# Altium footprint library InvertotPCBLib.PcbLib: 27 footprints (part 1 of 2)
Each footprint in its own frame and in the unit in brackets; x right, y up, seen from the top. Pads: shape width x height; smd on the part's side, far side on the other; paste and mask are expansions set on the pad; w line width, h text height; cw(c..) or ccw(c..) is an arc to the next point about the centre after c.
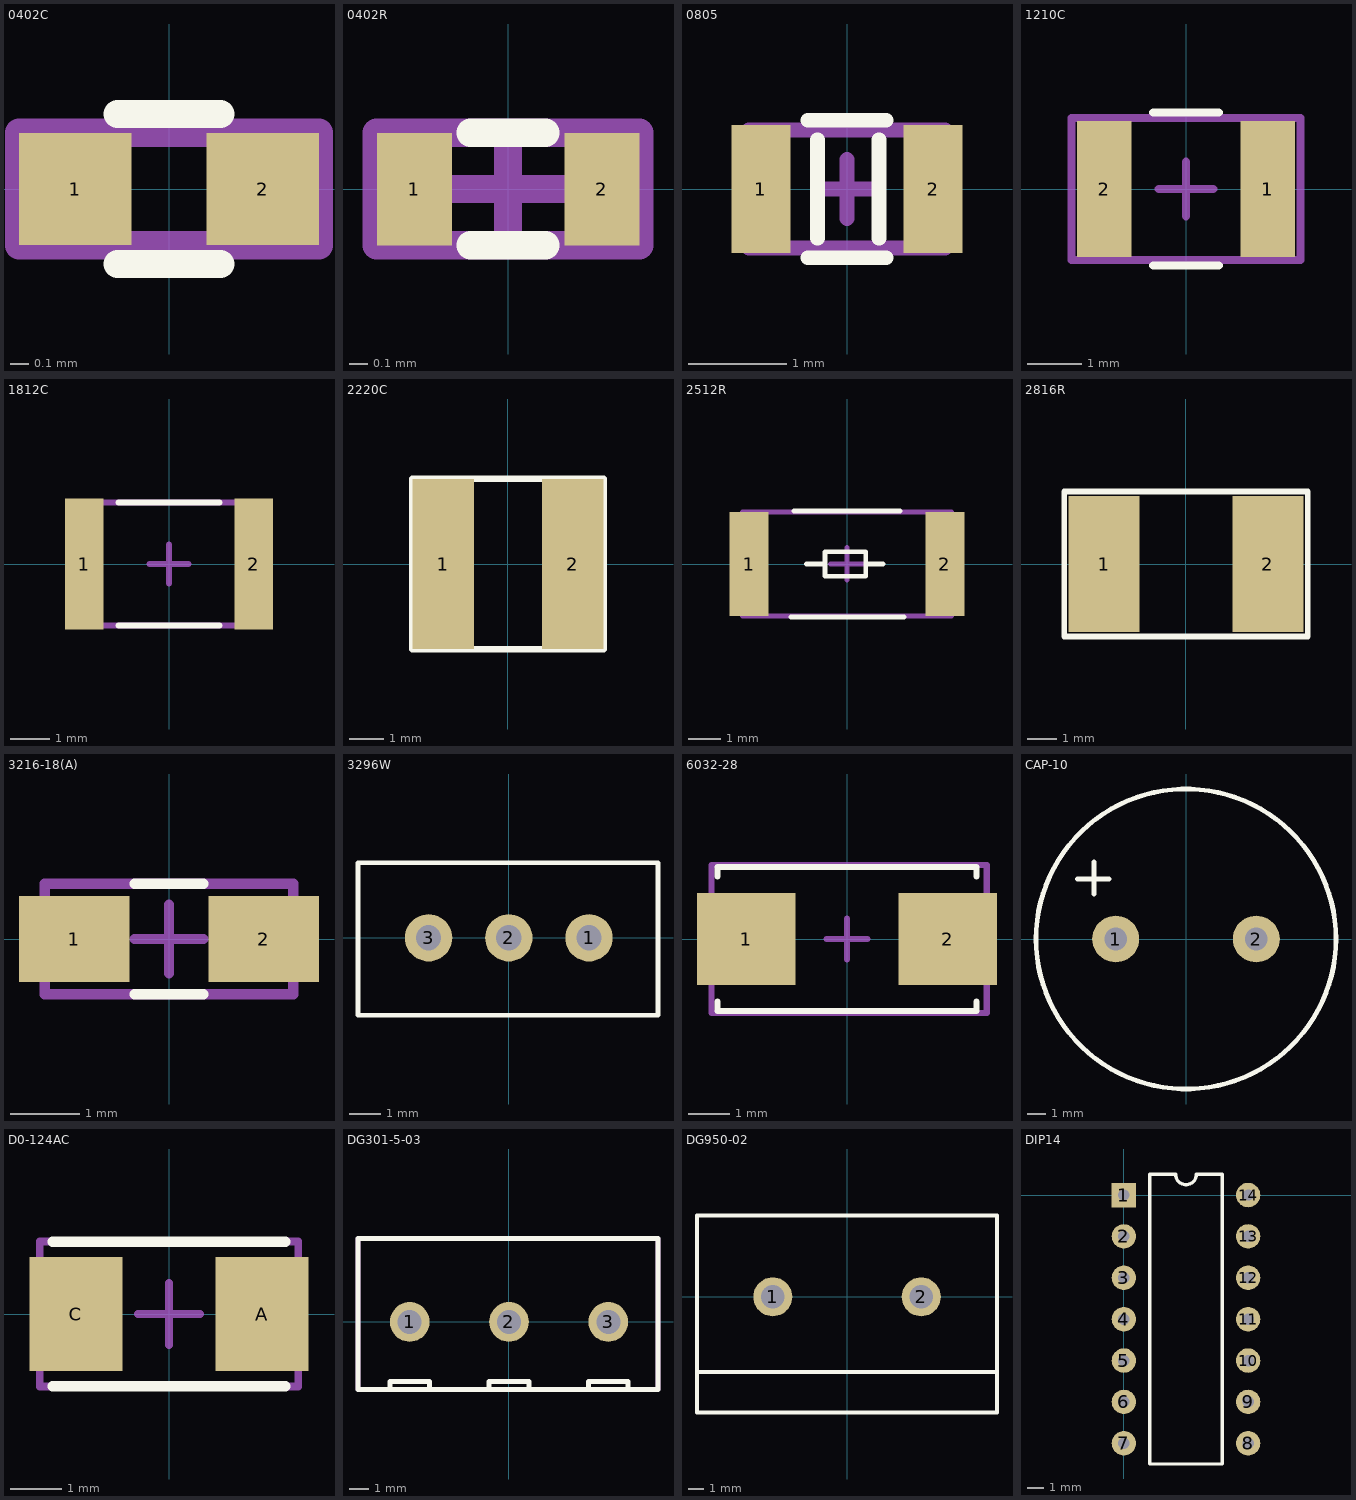
[diagram p0: the footprints below, top view; thin cyan lines are the x and y axes]

## 0402C [mm]
pads (2):
  rect 0.6x0.6 smd: 1(-0.5,0) 2(0.5,0)
Top Overlay:
  lines w0.15: -0.275,-0.4 0.275,-0.4 ; -0.275,0.4 0.275,0.4
Top Courtyard:
  lines w0.15: -0.8,-0.3 0.8,-0.3 0.8,0.3 -0.8,0.3 -0.8,-0.3
3D body "0402C.STEP": height 0.36, standoff 0, extent -0.5,-0.265 0.5,0.265

## 0402R [mm]
pads (2):
  rect 0.4x0.6 smd: 1(-0.5,0) 2(0.5,0)
Top Overlay:
  lines w0.15: -0.2,-0.3 0.2,-0.3 ; -0.2,0.3 0.2,0.3
Top Courtyard:
  lines w0.15: -0.3,0 0.3,0 ; 0,-0.3 0,0.3 ; -0.7,-0.3 -0.7,0.3 0.7,0.3 0.7,-0.3 -0.7,-0.3
3D body "0402R.STEP": height 0.34, standoff 0, extent -0.52,-0.3 0.52,0.3

## 0805 [mm]
pads (2):
  rect 0.6x1.3 smd: 1(-0.875,0) 2(0.875,0)
Top Overlay:
  lines w0.15: -0.4,-0.7 0.4,-0.7 ; -0.4,0.7 0.4,0.7 ; -0.3,-0.5 -0.3,0.5 ; 0.325,-0.5 0.325,0.5
Top Courtyard:
  lines w0.15: -0.3,0 0.3,0 ; 0,-0.3 0,0.3 ; -1,-0.6 -1,0.6 1,0.6 1,-0.6 -1,-0.6
3D body: height 0.8, standoff 0, extent 0.4,-0.6 1,0.6
3D body: height 0.8, standoff 0, extent -0.4,-0.6 0.4,0.6
3D body: height 0.8, standoff 0, extent -1,-0.6 -0.4,0.6

## 1210C [mm]
pads (2):
  rect 1x2.5 smd: 1(1.5,0) 2(-1.5,0)
Top Overlay:
  lines w0.15: -0.6,-1.4 0.6,-1.4 ; -0.6,1.4 0.6,1.4
Top Courtyard:
  lines w0.15: -0.5,0 0.5,0 ; 0,-0.5 0,0.5 ; -2.1,-1.3 2.1,-1.3 2.1,1.3 -2.1,1.3 -2.1,-1.3
3D body: height 1.6, standoff 0, extent 0.9,-1.3 2,1.3
3D body: height 1.6, standoff 0, extent -0.9,-1.3 0.9,1.3
3D body: height 1.6, standoff 0, extent -2,-1.3 -0.9,1.3

## 1812С [mm]
pads (2):
  rect 1x3.35 smd: 1(-2.175,0) 2(2.175,0)
Top Overlay:
  lines w0.15: -1.3,-1.575 1.3,-1.575 ; -1.3,1.575 1.3,1.575
Top Courtyard:
  lines w0.15: -0.5,0 0.5,0 ; 0,-0.5 0,0.5 ; -2.3,-1.575 2.3,-1.575 2.3,1.575 -2.3,1.575 -2.3,-1.575
3D body "C1812C.step": height 1, standoff 0, extent -2.25,-1.6 2.25,1.6

## 2220С [mm]
pads (2):
  rect 1.8x5 smd: 1(-1.9,0) 2(1.9,0)
Top Overlay:
  lines w0.2: -2.8,-2.5 -2.8,0 -2.8,2.5 2.8,2.5 2.8,-2.5 -2.8,-2.5

## 2512R [mm]
pads (2):
  rect 1.2x3.2 smd: 1(-3,0) 2(3,0)
Top Overlay:
  lines w0.15: -1.725,-1.625 1.75,-1.625 ; -1.625,1.625 1.625,1.625 ; -1.25,0 -0.675,0 ; 1.1,0 0.575,0 ; -0.675,0 -0.675,-0.375 0.575,-0.375 0.575,0 ; -0.675,0 -0.675,0.375 0.575,0.375 0.575,0
Top Courtyard:
  lines w0.15: -0.5,0 0.5,0 ; 0,-0.5 0,0.5 ; -3.2,-1.6 3.2,-1.6 3.2,1.6 -3.2,1.6 -3.2,-1.6
3D body: height 0.55, standoff 0, extent -3.2,-1.6 -2.5,1.6
3D body: height 0.55, standoff 0, extent 2.5,-1.6 3.2,1.6
3D body: height 0.55, standoff 0, extent -2.5,-1.6 2.5,1.6

## 2816R [mm]
pads (2):
  rect 2.45x4.7 smd: 1(-2.825,0) 2(2.825,0)
Top Overlay:
  lines w0.2: -4.2,-2.5 -4.2,0 -4.2,2.5 4.2,2.5 4.2,-2.5 -4.2,-2.5

## 3216-18(А) [mm]
pads (2):
  rect 1.6x1.25 smd: 1(-1.375,0) 2(1.375,0)
Top Overlay:
  lines w0.15: -0.5,-0.8 0.5,-0.8 ; -0.5,0.8 0.5,0.8
  text "." at -2.15,0.985 h0.1
Top Courtyard:
  lines w0.15: -0.5,0 0.5,0 ; 0,-0.5 0,0.5 ; -1.8,-0.8 -1.8,0.8 1.8,0.8 1.8,-0.8 -1.8,-0.8
3D body "3216-18(A).step": height 1.6, standoff 0, extent -1.82,-0.8 1.82,0.8

## 3296W [mm]
pads (3):
  round 1.5 hole 0.8: 1(2.54,0) 2(0,0) 3(-2.54,0)
Top Overlay:
  lines w0.15: -4.775,-2.45 -4.775,2.375 4.725,2.375 4.725,-2.45 -4.775,-2.45
3D body "3296W.STEP": height 11.52, standoff -3, extent -4.765,-2.43 4.765,2.4

## 6032-28 [mm]
pads (2):
  rect 2.4x2.25 smd: 1(-2.45,0) 2(2.45,0)
Top Overlay:
  lines w0.15: -3.15,-1.525 -3.15,-1.75 3.15,-1.75 3.15,-1.525 ; -3.15,1.525 -3.15,1.75 3.15,1.75 3.15,1.525
  text "." at -3.75,1.685 h0.1
Top Courtyard:
  lines w0.15: -0.5,0 0.5,0 ; 0,-0.5 0,0.5 ; -3.3,-1.8 3.4,-1.8 3.4,1.8 -3.3,1.8 -3.3,-1.8
3D body "CAPMP6134X28N.step": height 2.8, standoff 0, extent -3.37,-1.75 3.37,1.75

## CAP-10 [mm]
pads (2):
  round 2.5 hole 1.2: 1(-3.75,0) 2(3.75,0)
Top Overlay:
  circle w0.254: c0,0 r8
  lines w0.254: -5.8,3.2 -4.1,3.2 ; -4.9,2.4 -4.9,4.1

## D0-124AC [mm]
pads (2):
  rect 1.8x2.2 smd: A(1.8,0) C(-1.8,0)
Top Overlay:
  lines w0.2: -2.25,-1.4 2.25,-1.4 ; -2.25,1.4 2.25,1.4
  text "." at -2.805,1.58 h0.1
Top Courtyard:
  lines w0.15: -0.6,0 0.6,0 ; 0,-0.6 0,0.6 ; -2.5,-1.4 -2.5,1.4 2.5,1.4 2.5,-1.4 -2.5,-1.4
3D body "DIOM4227X24N.step": height 2.4, standoff 0, extent -2.47,-1.4 2.47,1.4

## DG301-5-03 [mm]
pads (3):
  round 2 hole 1.2: 1(-5,0) 2(0,0) 3(5,0)
Top Overlay:
  lines w0.254: -6,-3.4 -6,-3 -4,-3 -4,-3.4 ; -2.6,-3.4 7.5,-3.4 7.5,4.2 -2.6,4.2 ; 2.5,-3.4 -7.6,-3.4 -7.6,4.2 2.5,4.2 ; 4,-3.4 4,-3 6,-3 6,-3.4 ; -1,-3 -1,-3.4 -1,-3 ; -1,-3 1,-3 ; -1,-3 1,-3 ; 1,-3 1,-3.4 1,-3
Top Courtyard:
  lines w0.254: -2.6,-3.4 7.5,-3.4 7.5,4.2 -2.6,4.2 ; 2.5,-3.4 -7.6,-3.4 -7.6,4.2 2.5,4.2
3D body "User Library-DG301-5_0-3P12.STEP": height 10, standoff -4.16, extent -8.1,-3.4 7.5,4.2

## DG950-02 [mm]
pads (2):
  round 2.5 hole 1.5: 1(-4.75,0) 2(4.75,0)
Top Overlay:
  lines w0.254: -9.6,-4.8 9.6,-4.8 ; -9.6,-7.4 -9.6,5.2 9.6,5.2 9.6,-7.4 -9.6,-7.4
3D body "DG950-9.5-02P-14-00AH.STEP": height 21.5, standoff -5, extent -10.083,-7.351 9.517,5.149

## DIP14 [mm]
pads (14):
  rect 1.5x1.5 hole 0.7: 1(0,0)
  round 1.5 hole 0.7: 2(0,-2.54) 3(0,-5.08) 4(0,-7.62) 5(0,-10.16) 6(0,-12.7) 7(0,-15.24) 8(7.62,-15.24) 9(7.62,-12.7) 10(7.62,-10.16) 11(7.62,-7.62) 12(7.62,-5.08) 13(7.62,-2.54) 14(7.62,0)
Top Overlay:
  lines w0.2: 1.585,-16.51 1.585,1.27 3.175,1.27 ccw(c3.81,1.27) 4.445,1.27 6.035,1.27 6.035,-16.51 1.585,-16.51